# Altium footprint library B2B-XH-AM_LF__SN_.PcbLib: 1 footprints
Each footprint in its own frame and in the unit in brackets; x right, y up, seen from the top. Pads: shape width x height; smd on the part's side, far side on the other; paste and mask are expansions set on the pad; w line width, h text height; cw(c..) or ccw(c..) is an arc to the next point about the centre after c.
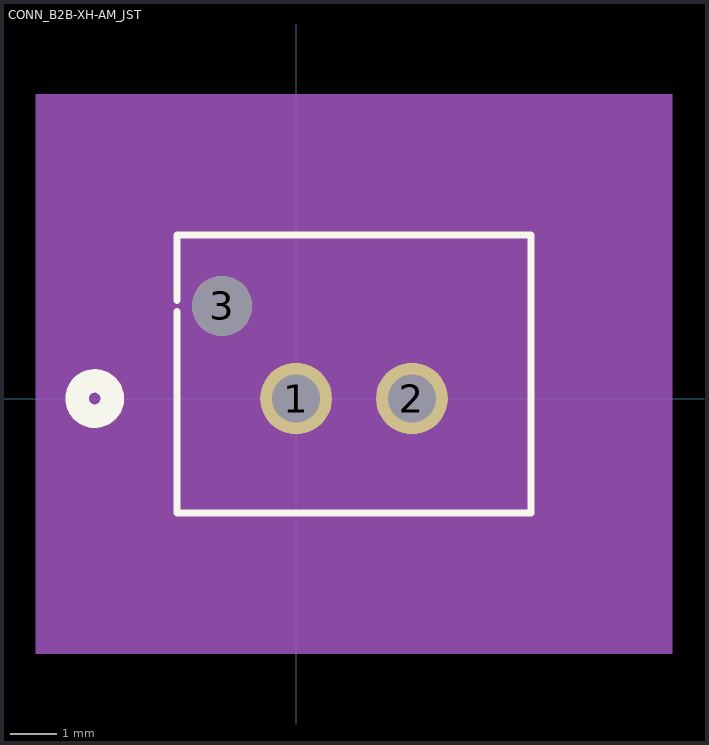
[diagram p0: the footprint, top view; thin cyan lines are the x and y axes]

## CONN_B2B-XH-AM_JST [mil]
pads (3):
  round 61 hole 41 mask+0: 1(0,0) 2(98.43,0)
  round 51 hole 51 unplated: 3(-62.99,78.74)
Top Overlay:
  circle w20: c-171.29,0 r15
  lines w6: -101.29,73.9 -101.29,-97.14 199.71,-97.14 199.71,138.86 -101.29,138.86 -101.29,83.58
Bottom Overlay:
  circle w20: c-171.29,0 r15
Mechanical 5:
  region: -221.29,258.86 319.71,258.86 319.71,-217.14 -221.29,-217.14
Mechanical 13:
  circle w20: c0,75 r15
  lines w1: -96.29,-92.14 194.71,-92.14 194.71,133.86 -96.29,133.86 -96.29,-92.14
Mechanical 15:
  region: 204.71,143.86 -106.29,143.86 -106.29,-102.14 204.71,-102.14
  lines w6: -106.29,-102.14 -106.29,143.86 204.71,143.86 204.71,-102.14 -106.29,-102.14
3D body: height 10, standoff 0, extent 0,0 10,10